# Altium footprint library SINGLE_RELAYS_UP_TO_2_AMPS.PcbLib: 1 footprints
Each footprint in its own frame and in the unit in brackets; x right, y up, seen from the top. Pads: shape width x height; smd on the part's side, far side on the other; paste and mask are expansions set on the pad; w line width, h text height; cw(c..) or ccw(c..) is an arc to the next point about the centre after c.
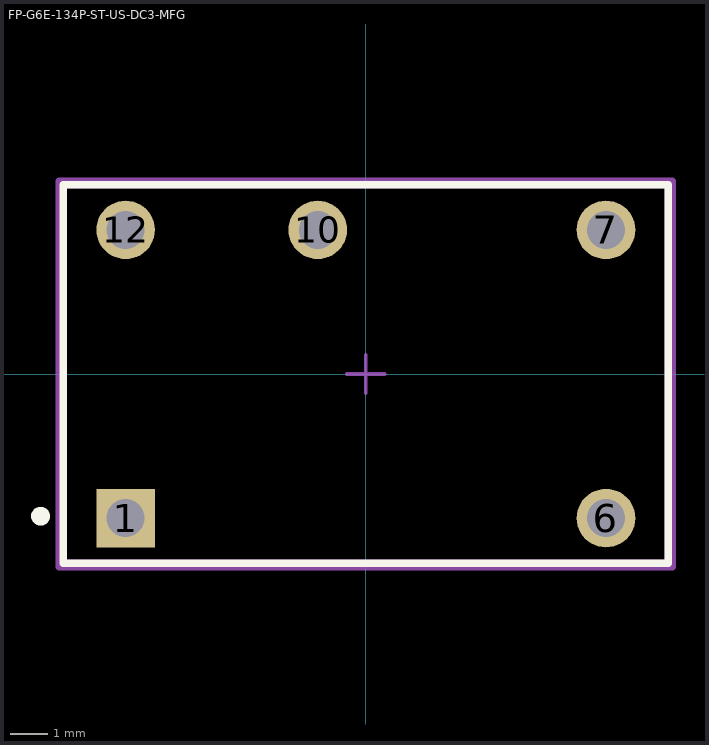
[diagram p0: the footprint, top view; thin cyan lines are the x and y axes]

## FP-G6E-134P-ST-US-DC3-MFG [mm] "SPDT PCB Mount Non-Latching Relay Surface Mount, 3 A, 3V dc"
pads (5):
  rect 1.55x1.55 hole 1 paste-1000 mask+0: 1(-6.35,-3.81)
  round 1.55 hole 1 paste-1000 mask+0: 6(6.35,-3.81) 7(6.35,3.81) 10(-1.27,3.81) 12(-6.35,3.81)
Top Overlay:
  circle w0.25: c-8.6,-3.76 r0.125
  lines w0.2: -8,-5 8,-5 8,5 -8,5 -8,-5
Top Assembly:
  lines w0.2: -8.1,-5.1 -8.1,5.1 8.1,5.1 8.1,-5.1 -8.1,-5.1
Top Component Center:
  lines w0.1: -0.5,0 0.5,0 ; 0,-0.5 0,0.5
Top Component Outline:
  lines w0.2: -8,-5 -8,5 8,5 8,-5 -8,-5
Top Courtyard:
  lines w0.2: -8.1,-5.1 8.1,-5.1 8.1,5.1 -8.1,5.1 -8.1,-5.1
Top Designator:
  text ".Designator" at -7.63,-0.521 h1.52
3D body "Relay_Omron_G6E-134P-ST-US-DC3_eec.STEP": height 0.25, standoff 0, extent -8.1,-5.1 8.1,5.1